# Altium schematic symbol library SPANSION FLASH SPI 8PIN.SchLib: 1 symbol
Pins are listed as number, name and electrical type; pins without a type are passive.

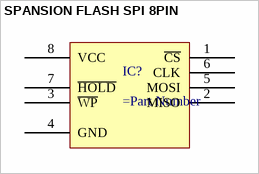
[diagram p0: symbol SPANSION FLASH SPI 8PIN]

## SPANSION FLASH SPI 8PIN
designator IC?
pins: 1 ~{CS}, 2 MISO, 3 ~{WP}, 4 GND, 5 MOSI, 6 CLK, 7 ~{HOLD}, 8 VCC